# EAGLE library part OPA4322AIPWR (library SamacSys_Parts)
20MHz, Low Noise, 1.8V, RRIO, CMOS Operational Amplifier Source: Datasheet <http://www.ti.com/lit/ds/symlink/opa4322.pdf>
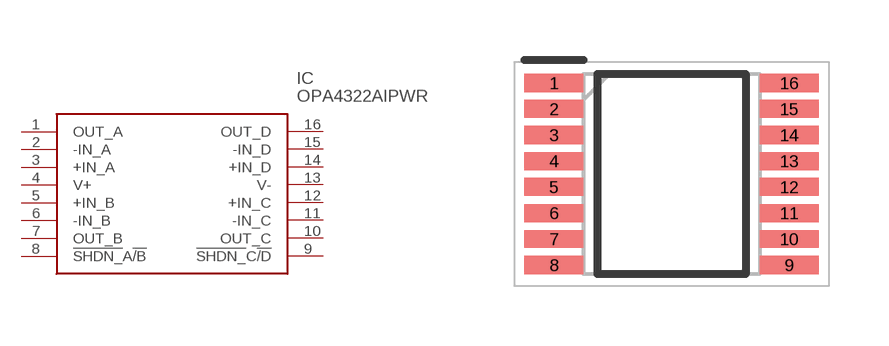
[diagram p1: symbol with the pads of SOP65P640X120-16N; footprint SOP65P640X120-16N]

Designator prefix IC

## OPA4322AIPWR (Description: 20MHz, Low Noise, 1.8V, RRIO, CMOS Operational Amplifier; Height: 1.2mm; Manufacturer_Name: Texas Instruments; Manufacturer_Part_Number: OPA4322AIPWR; Mouser_Part_Number: 595-OPA4322AIPWR; Mouser_Price-Stock: https://www.mouser.com/Search/Refine.aspx?Keyword=595-OPA4322AIPWR)  [SOP65P640X120-16N]
1  OUT_A
2  -IN_A
3  +IN_A
4  V+
5  +IN_B
6  -IN_B
7  OUT_B
8  !SHDN_!A!/B
9  !SHDN_!C!/D
10  OUT_C
11  -IN_C
12  +IN_C
13  V-
14  +IN_D
15  -IN_D
16  OUT_D

## Footprint SOP65P640X120-16N (pad centres in mm)
TSSOP
smd 1.475 x 0.45: 1 -2.938,2.275; 2 -2.938,1.625; 3 -2.938,0.975; 4 -2.938,0.325; 5 -2.938,-0.325; 6 -2.938,-0.975; 7 -2.938,-1.625; 8 -2.938,-2.275; 9 2.938,-2.275; 10 2.938,-1.625; 11 2.938,-0.975; 12 2.938,-0.325; 13 2.938,0.325; 14 2.938,0.975; 15 2.938,1.625; 16 2.938,2.275